# Altium schematic symbol library Lib_murata.SchLib: 1 symbol
Pins are listed as number, name and electrical type; pins without a type are passive.

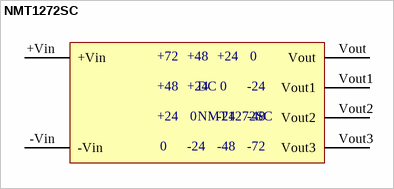
[diagram p0: symbol NMT1272SC]

## NMT1272SC
designator DC
Manufacturer: Murata; MPN: NMT1272SC; Value: NMT1272SC
footprint NMT1272SC; pin to pad +Vin>1 -Vin>2 Vout>5 Vout1>6 Vout2>7 Vout3>8
pins: +Vin (power), -Vin, Vout, Vout1, Vout2, Vout3
text: +72; +48; +24; 0; -24; -48; -72